# Altium footprint library RK3288-MID.PcbLib: 55 footprints (part 4 of 4)
Each footprint in its own frame and in the unit in brackets; x right, y up, seen from the top. Pads: shape width x height; smd on the part's side, far side on the other; paste and mask are expansions set on the pad; w line width, h text height; cw(c..) or ccw(c..) is an arc to the next point about the centre after c.
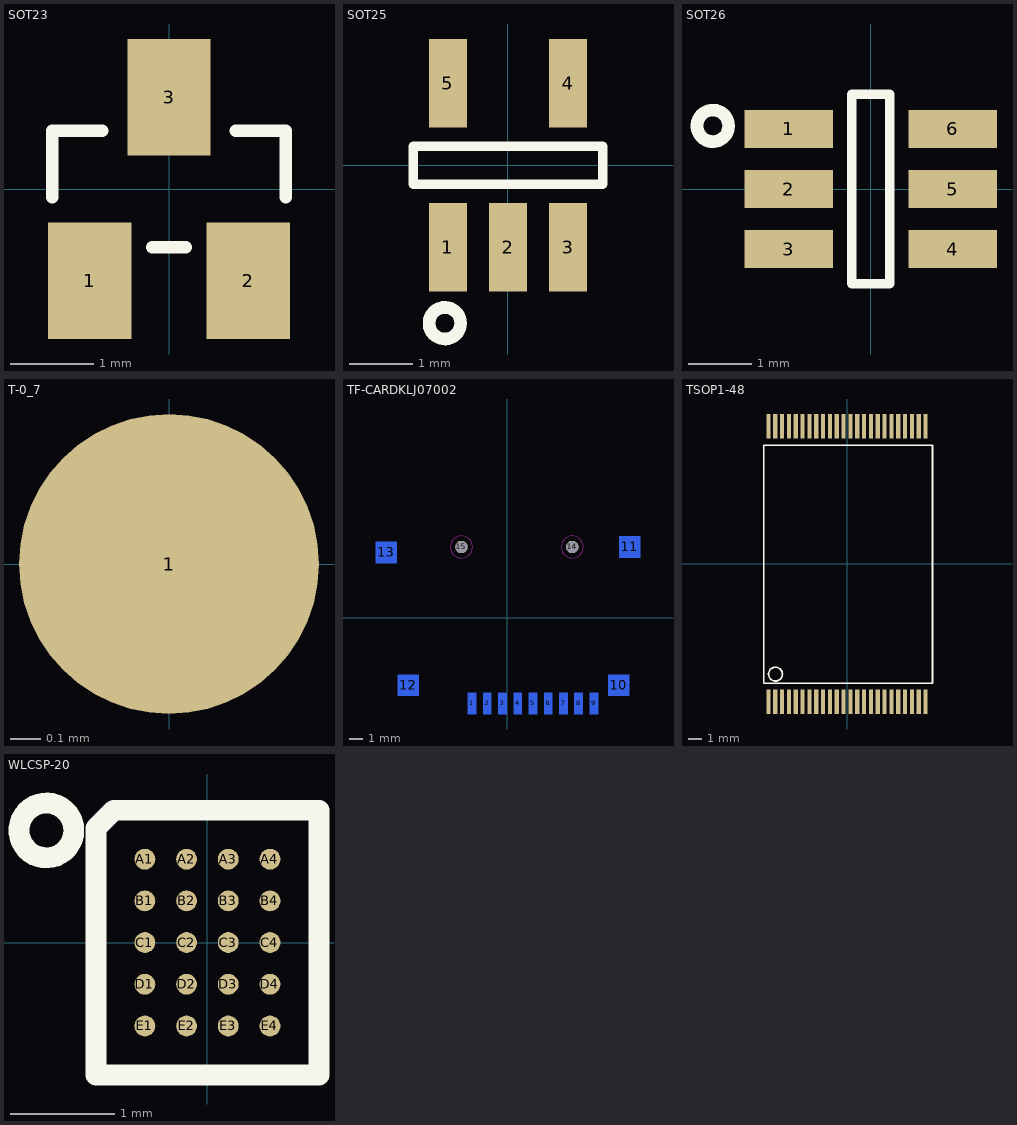
[diagram p3: the footprints below, top view; thin cyan lines are the x and y axes]

## SOT23 [mm] "SOT23"
pads (3):
  rect 1x1.4 smd: 1(-0.95,-1.1) 2(0.95,-1.1) 3(0,1.1)
Top Overlay:
  lines w0.15: -1.4,-0.1 -1.4,0.7 -0.8,0.7 ; -0.2,-0.7 0.2,-0.7 ; 0.8,0.7 1.4,0.7 1.4,-0.1

## SOT25 [mm] "SOT25"
pads (5):
  rect 0.6x1.4 smd: 1(-0.95,-1.3) 2(0,-1.3) 3(0.95,-1.3) 4(0.95,1.3) 5(-0.95,1.3)
Top Overlay:
  circle w0.2: c-1,-2.5 r0.25
  lines w0.15: -1.5,-0.3 -1.5,0.3 1.5,0.3 1.5,-0.3 -1.5,-0.3

## SOT26 [mm] "SOT26"
pads (6):
  rect 1.4x0.6 smd: 1(-1.3,0.95) 2(-1.3,0) 3(-1.3,-0.95) 4(1.3,-0.95) 5(1.3,0) 6(1.3,0.95)
Top Overlay:
  circle w0.2: c-2.5,1 r0.25
  lines w0.15: -0.3,-1.5 0.3,-1.5 0.3,1.5 -0.3,1.5 -0.3,-1.5

## T-0_7 [mm] "T-0_7"
pads (1):
  round 1 smd: 1(0,0)

## TF-CARDKLJ07002 [mm] "TF-CARDKLJ07002"
pads (15):
  rect 0.6x1.524 smd far side: 1(-2.55,-6.175) 2(-1.45,-6.175) 3(-0.35,-6.175) 4(0.75,-6.175) 5(1.85,-6.175) 6(2.95,-6.175) 7(4.05,-6.175) 8(5.15,-6.175) 9(6.25,-6.175)
  rect 1.524x1.524 smd far side: 10(8.05,-4.875) 11(8.85,5.125) 12(-7.15,-4.875) 13(-8.75,4.725)
  round 0.9 hole 0.9: 14(4.69,5.123) 15(-3.309,5.122)
Bottom Overlay:
  lines w0.1: -4.85,9.625 cw(c-4.05,9.625) -4.05,10.425 5.35,10.425 cw(c5.35,9.625) 6.15,9.625 ; -4.85,10.625 cw(c-4.05,10.625) -4.05,11.425 5.35,11.425 cw(c5.35,10.625) 6.15,10.625 ; -4.55,9.125 -4.85,9.425 -4.85,13.925 cw(c-4.05,13.925) -4.05,14.725 5.35,14.725 cw(c5.35,13.925) 6.15,13.925 6.15,8.425 ; -7.65,-4.375 -7.65,9.125 -4.381,9.125 ccw(c-2.874,10.397) -2.858,8.425 7.142,8.425 7.142,-5.375 -6.95,-5.375 -6.95,-4.375 -7.65,-4.375
Multi-Layer keep-out:
  circle w0.025: c-3.309,5.122 r0.8
  circle w0.025: c4.69,5.123 r0.8

## TSOP1-48 [mm] "TSOP1-48"
pads (48):
  rect 0.3x1.8 smd: 1(-5.75,-10.075) 2(-5.25,-10.075) 3(-4.75,-10.075) 4(-4.25,-10.075) 5(-3.75,-10.075) 6(-3.25,-10.075) 7(-2.75,-10.075) 8(-2.25,-10.075) 9(-1.75,-10.075) 10(-1.25,-10.075) 11(-0.75,-10.075) 12(-0.25,-10.075) 13(0.25,-10.075) 14(0.75,-10.075) 15(1.25,-10.075) 16(1.75,-10.075) 17(2.25,-10.075) 18(2.75,-10.075) 19(3.25,-10.075) 20(3.75,-10.075) 21(4.25,-10.075) 22(4.75,-10.075) 23(5.25,-10.075) 24(5.75,-10.075) 25(5.75,10.075) 26(5.25,10.075) 27(4.75,10.075) 28(4.25,10.075) 29(3.75,10.075) 30(3.25,10.075) 31(2.75,10.075) 32(2.25,10.075) 33(1.75,10.075) 34(1.25,10.075) 35(0.75,10.075) 36(0.25,10.075) 37(-0.25,10.075) 38(-0.75,10.075) 39(-1.25,10.075) 40(-1.75,10.075) 41(-2.25,10.075) 42(-2.75,10.075) 43(-3.25,10.075) 44(-3.75,10.075) 45(-4.25,10.075) 46(-4.75,10.075) 47(-5.25,10.075) 48(-5.75,10.075)
Top Overlay:
  circle w0.127: c-5.232,-8.058 r0.508
  lines w0.127: -6.1,-8.725 -6.1,8.684 6.25,8.684 6.25,-8.725 -6.1,-8.725

## WLCSP-20 [mm] "WLCSP-20"
pads (20):
  round 0.2 smd: A1(-0.6,0.8) A2(-0.2,0.8) A3(0.2,0.8) A4(0.6,0.8) B1(-0.6,0.4) B2(-0.2,0.4) B3(0.2,0.4) B4(0.6,0.4) C1(-0.6,0) C2(-0.2,0) C3(0.2,0) C4(0.6,0) D1(-0.6,-0.4) D2(-0.2,-0.4) D3(0.2,-0.4) D4(0.6,-0.4) E1(-0.6,-0.8) E2(-0.2,-0.8) E3(0.2,-0.8) E4(0.6,-0.8)
Top Overlay:
  circle w0.2: c-1.545,1.076 r0.263
  lines w0.2: -1.07,-1.27 1.07,-1.27 1.07,1.27 -0.897,1.27 -1.07,1.097 -1.07,-1.27